# Altium schematic symbol library IC_Memory.SchLib: 5 symbols
Pins are listed as number, name and electrical type; pins without a type are passive.

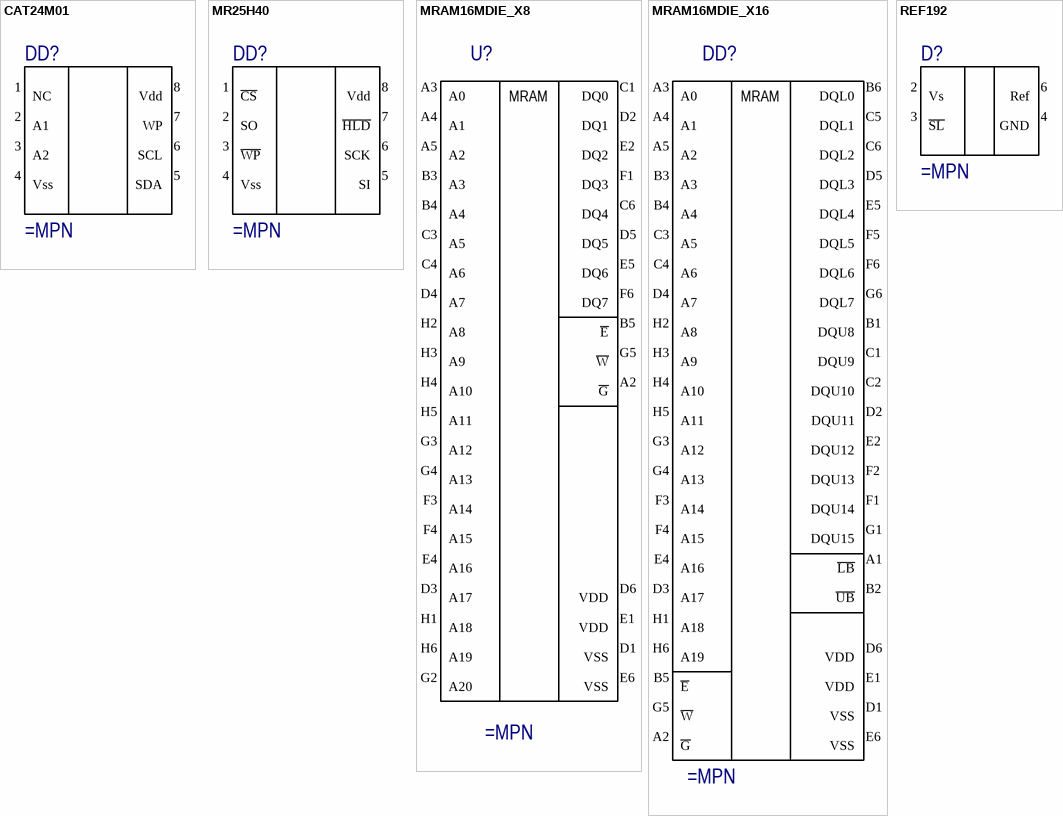
[diagram p0: symbols CAT24M01 to REF192]

## CAT24M01
designator DD?
IC EEPROM 1M I2C 1MHZ 8SOIC
pins: 1 NC "Noninverting input", 2 A1 "Noninverting input", 3 A2 "Noninverting input", 4 Vss "Noninverting input", 5 SDA "Noninverting input", 6 SCL "Noninverting input", 7 WP "Noninverting input", 8 Vdd "Positive (highest) power supply"

## MR25H40
designator DD?
pins: 1 ~{CS} "Noninverting input", 2 SO "Noninverting input", 3 ~{WP} "Noninverting input", 4 Vss "Noninverting input", 5 SI "Noninverting input", 6 SCK "Noninverting input", 7 ~{HLD} "Noninverting input", 8 Vdd "Positive (highest) power supply"

## MRAM16MDIE_X8
designator U?
pins: A1 DC hidden, A2 ~{G}, A3 A0, A4 A1, A5 A2, A6 DC hidden, B1 NC hidden, B2 DC hidden, B3 A3, B4 A4, B5 ~{E}, B6 DC hidden, C1 DQ0, C2 NC hidden, C3 A5, C4 A6, C5 NC hidden, C6 DQ4, D1 VSS, D2 DQ1, D3 A17, D4 A7, D5 DQ5, D6 VDD, E1 VDD, E2 DQ2, E3 DC hidden, E4 A16, E5 DQ6, E6 VSS, F1 DQ3, F2 NC hidden, F3 A14, F4 A15, F5 NC hidden, F6 DQ7, G1 NC hidden, G2 A20, G3 A12, G4 A13, G5 ~{W}, G6 NC hidden, H1 A18, H2 A8, H3 A9, H4 A10, H5 A11, H6 A19
text: MRAM

## MRAM16MDIE_X16
designator DD?
pins: A1 ~{LB}, A2 ~{G}, A3 A0, A4 A1, A5 A2, B1 DQU8, B2 ~{UB}, B3 A3, B4 A4, B5 ~{E}, B6 DQL0, C1 DQU9, C2 DQU10, C3 A5, C4 A6, C5 DQL1, C6 DQL2, D1 VSS, D2 DQU11, D3 A17, D4 A7, D5 DQL3, D6 VDD, E1 VDD, E2 DQU12, E4 A16, E5 DQL4, E6 VSS, F1 DQU14, F2 DQU13, F3 A14, F4 A15, F5 DQL5, F6 DQL6, G1 DQU15, G3 A12, G4 A13, G5 ~{W}, G6 DQL7, H1 A18, H2 A8, H3 A9, H4 A10, H5 A11, H6 A19
text: MRAM

## REF192
designator D?
pins: 2 Vs, 3 ~{SL}, 4 GND, 6 Ref